# EAGLE library part 61003418321 (library Board-to-Board (rev18a))
WR-PHD 2.54mm SMT Pin Header, 34 Pins =>Code : Con_BTB_PHD_2.54_1_SMT_61003418321 <http://katalog.we-online.de/media/images/eican/Con_BTB_PHD_2.54_1_SMT_6100xx18221_pf2.jpg> Details see: http://katalog.we-online.de/en/em/610_0xx_182_21 Created 2014-05-29, Karrer Zheng 2014 (C) Würth Elektronik
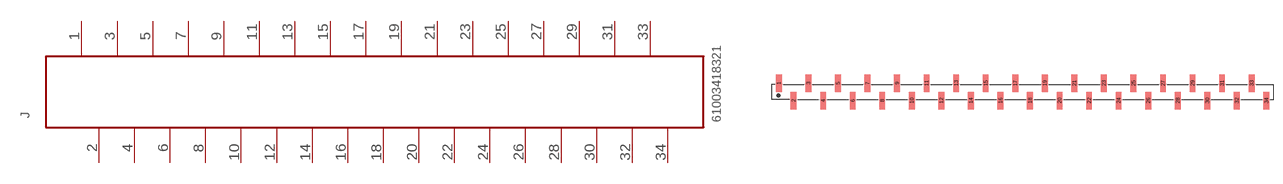
[diagram p71: symbol with the pads of 61003418321; footprint 61003418321]

Designator prefix J

## 61003418321  [61003418321]
1  34  pas
2  33  pas
3  32  pas
4  31  pas
5  30  pas
6  29  pas
7  28  pas
8  27  pas
9  26  pas
10  25  pas
11  24  pas
12  23  pas
13  22  pas
14  21  pas
15  20  pas
16  19  pas
17  18  pas
18  17  pas
19  16  pas
20  15  pas
21  14  pas
22  13  pas
23  12  pas
24  11  pas
25  10  pas
26  9  pas
27  8  pas
28  7  pas
29  6  pas
30  5  pas
31  4  pas
32  3  pas
33  2  pas
34  1  pas

## Footprint 61003418321 (pad centres in mm)
WR-PHD 2.54mm SMT Pin Header, 34 Pins
smd 1 x 3: 1 -41.91,1.5; 2 -39.37,-1.5; 3 -36.83,1.5; 4 -34.29,-1.5; 5 -31.75,1.5; 6 -29.21,-1.5; 7 -26.67,1.5; 8 -24.13,-1.5; 9 -21.59,1.5; 10 -19.05,-1.5; 11 -16.51,1.5; 12 -13.97,-1.5; 13 -11.43,1.5; 14 -8.89,-1.5; 15 -6.35,1.5; 16 -3.81,-1.5; 17 -1.27,1.5; 18 1.27,-1.5; 19 3.81,1.5; 20 6.35,-1.5; 21 8.89,1.5; 22 11.43,-1.5; 23 13.97,1.5; 24 16.51,-1.5; 25 19.05,1.5; 26 21.59,-1.5; 27 24.13,1.5; 28 26.67,-1.5; 29 29.21,1.5; 30 31.75,-1.5; 31 34.29,1.5; 32 36.83,-1.5; 33 39.37,1.5; 34 41.91,-1.5